# Altium schematic symbol library OPAMS.SchLib: 7 symbols
Pins are listed as number, name and electrical type; pins without a type are passive.

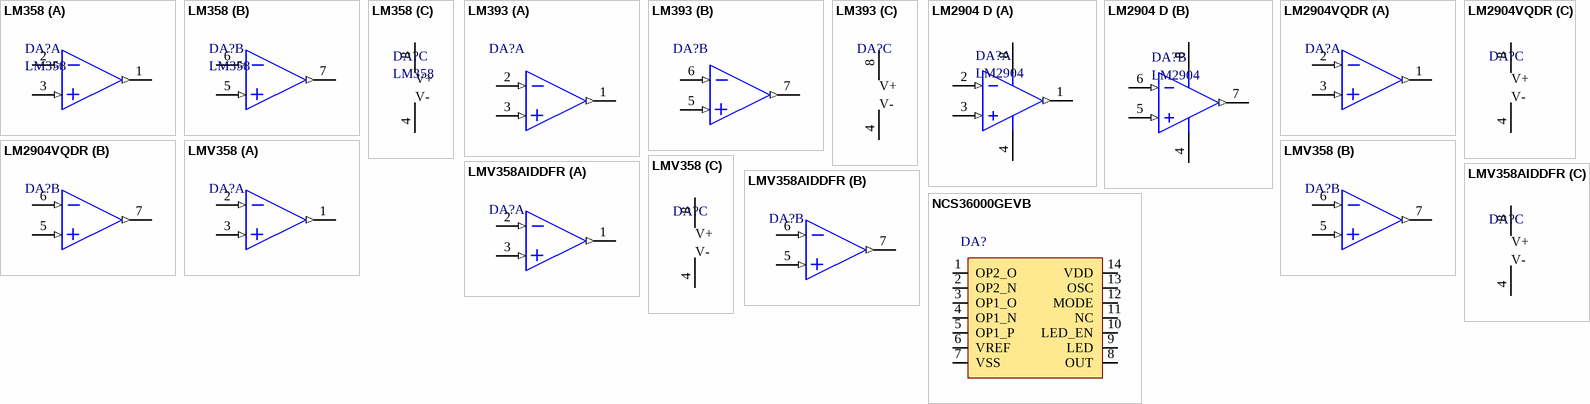
[diagram p0: symbols LM358 to NCS36000GEVB]

## LM358
designator DA?
Name: LM358
footprint SOIC-8N (SOIC, 8-Leads, Body 4,90x3,90mm, Pitch 1,27mm, IPC Medium Density)
part A pins: 1 (out), 2 (in), 3 (in)
part B pins: 5 (in), 6 (in), 7 (out)
part C pins: 4 GROUND (power), 8 POWER (power)
part C text: V+; V-

## LM393
designator DA?, comment Dual differential comparator  (value not drawn)
footprint SOIC-8N (SOIC, 8-Leads, Body 4,90x3,90mm, Pitch 1,27mm, IPC Medium Density)
part A pins: 1 (out), 2 (in), 3 (in)
part B pins: 5 (in), 6 (in), 7 (out)
part C pins: 4 GROUND (power), 8 POWER (power)
part C text: V+; V-

## LM2904 D
designator DA?, comment LM2904
Name: LM2904
footprint SOIC-8N (SOIC, 8-Leads, Body 4,90x3,90mm, Pitch 1,27mm, IPC Medium Density)
part A pins: 1 OUT (out), 2 -IN (in), 3 +IN (in), 4 -V (power), 8 +V (power)
part B pins: 4 -V (power), 5 (in), 6 (in), 7 (out), 8 +V (power)

## LM2904VQDR
designator DA?
Dual Operational Amplifiers
footprint SOIC-8N (SOIC, 8-Leads, Body 4,90x3,90mm, Pitch 1,27mm, IPC Medium Density)
part A pins: 1 (out), 2 (in), 3 (in)
part B pins: 5 (in), 6 (in), 7 (out)
part C pins: 4 GROUND (power), 8 POWER (power)
part C text: V+; V-

## LMV358
designator DA?  (value not drawn)
Name: LMV358
footprint SOIC-8N (SOIC, 8-Leads, Body 4,90x3,90mm, Pitch 1,27mm, IPC Medium Density)
part A pins: 1 (out), 2 (in), 3 (in)
part B pins: 5 (in), 6 (in), 7 (out)
part C pins: 4 GROUND (power), 8 POWER (power)
part C text: V+; V-

## LMV358AIDDFR
designator DA?
LMV3xxLow-VoltageRail-to-RailOutputOperationalAmplifier
footprint SOT23-8-HD
part A pins: 1 (out), 2 (in), 3 (in)
part B pins: 5 (in), 6 (in), 7 (out)
part C pins: 4 GROUND (power), 8 POWER (power)
part C text: V+; V-

## NCS36000GEVB
designator DA?
Passive Infrared (PIR) / Detector Controller
footprint SOIC14-HD
pins: 1 OP2_O (power), 2 OP2_N (power), 3 OP1_O (power), 4 OP1_N (power), 5 OP1_P (power), 6 VREF (power), 7 VSS (power), 8 OUT (power), 9 LED (power), 10 LED_EN (power), 11 NC (power), 12 MODE (power), 13 OSC (power), 14 VDD (power)